# Altium footprint library Switch.PcbLib: 1 footprints
Each footprint in its own frame and in the unit in brackets; x right, y up, seen from the top. Pads: shape width x height; smd on the part's side, far side on the other; paste and mask are expansions set on the pad; w line width, h text height; cw(c..) or ccw(c..) is an arc to the next point about the centre after c.
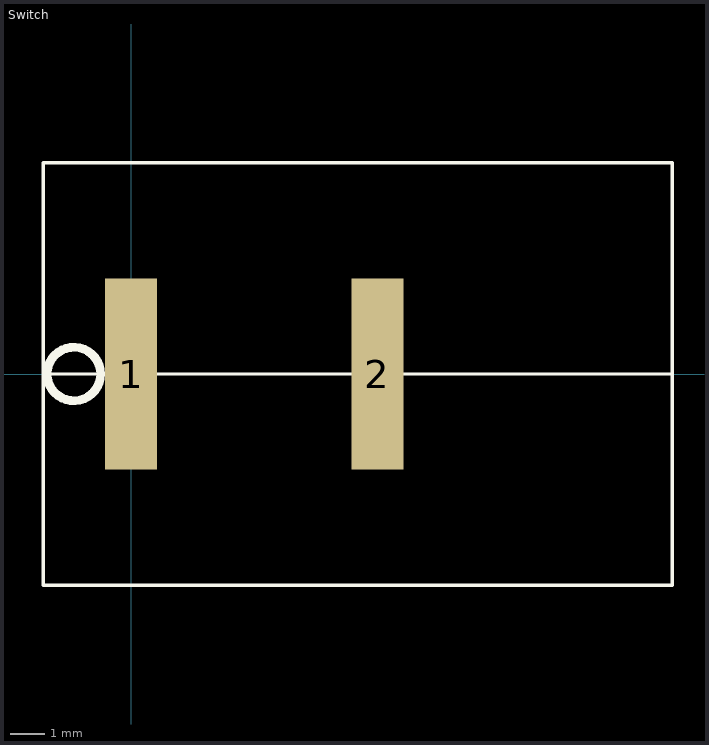
[diagram p0: the footprint, top view; thin cyan lines are the x and y axes]

## Switch [mm]
pads (2):
  rect 1.5x5.5 all layers, no hole: 1(0,0) 2(7.112,0)
Top Overlay:
  circle w0.254: c-1.651,0 r0.773
  lines w0.1: -2.54,0 -0.635,0 ; -0.635,0.254 0.508,0.254 ; 0.508,0 6.477,0 ; 6.477,0.254 7.62,0.254 ; 7.62,0 15.621,0 ; -2.54,-6.096 -2.54,6.096 15.621,6.096 15.621,-6.096 -2.54,-6.096